# EAGLE library part FPF2895UCX (library edrtech_lib)
Load Switch IC 5A 28V WLCSP-12 Source: Datasheet <https://www.mouser.in/datasheet/2/308/1/ONSM_S_A0003589961_1-2560342.pdf>
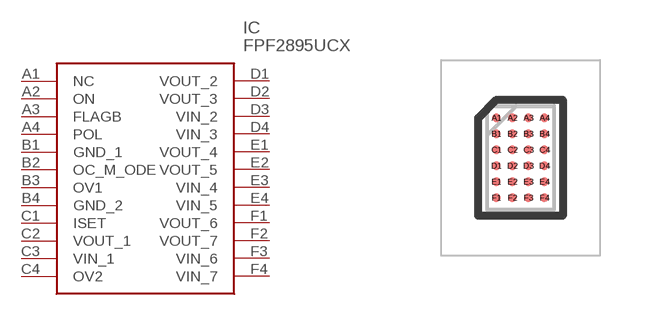
[diagram p63: symbol with the pads of BGA24C40P4X6_167X260X61; footprint BGA24C40P4X6_167X260X61]

Designator prefix IC

## FPF2895UCX (ARROW_PART_NUMBER: FPF2895UCX; ARROW_PRICE-STOCK: https://www.arrow.com/en/products/fpf2895ucx/on-semiconductor; DESCRIPTION: Load Switch IC 5A 28V WLCSP-12; HEIGHT: 0.612mm; MANUFACTURER_NAME: onsemi; MANUFACTURER_PART_NUMBER: FPF2895UCX)  [BGA24C40P4X6_167X260X61]
A1  NC  nc
A2  ON
A3  FLAGB
A4  POL
B1  GND_1
B2  OC_M_ODE
B3  OV1
B4  GND_2
C1  ISET
C2  VOUT_1
C3  VIN_1
C4  OV2
D1  VOUT_2
D2  VOUT_3
D3  VIN_2
D4  VIN_3
E1  VOUT_4
E2  VOUT_5
E3  VIN_4
E4  VIN_5
F1  VOUT_6
F2  VOUT_7
F3  VIN_6
F4  VIN_7

## Footprint BGA24C40P4X6_167X260X61 (pad centres in mm)
24-Ball, 0.4 mm Pitch WLCSP
smd 0.208 x 0.208: A1 -0.6,1; A2 -0.2,1; A3 0.2,1; A4 0.6,1; B1 -0.6,0.6; B2 -0.2,0.6; B3 0.2,0.6; B4 0.6,0.6; C1 -0.6,0.2; C2 -0.2,0.2; C3 0.2,0.2; C4 0.6,0.2; D1 -0.6,-0.2; D2 -0.2,-0.2; D3 0.2,-0.2; D4 0.6,-0.2; E1 -0.6,-0.6; E2 -0.2,-0.6; E3 0.2,-0.6; E4 0.6,-0.6; F1 -0.6,-1; F2 -0.2,-1; F3 0.2,-1; F4 0.6,-1